# EAGLE library part TLC5941 (library tlc594X)
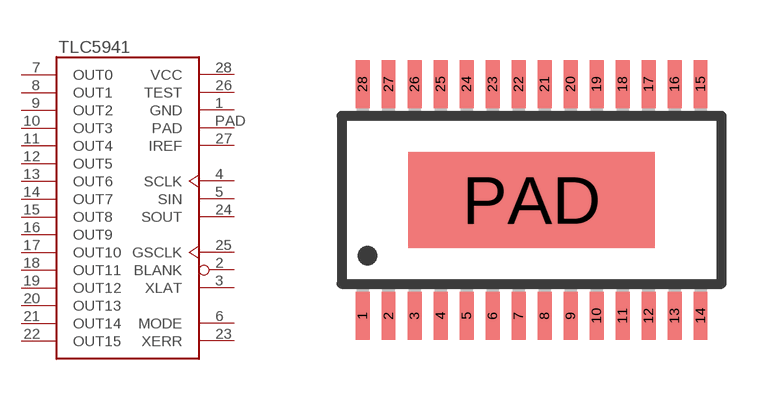
[diagram p1: symbol with the pads of HTSSOP28_POWERPAD; footprint HTSSOP28_POWERPAD]

Designator prefix -

## TLC5941  [HTSSOP28_POWERPAD]
1  GND  pwr
2  BLANK  in
3  XLAT  in
4  SCLK  in
5  SIN  in
6  MODE
7  OUT0  out
8  OUT1  out
9  OUT2  out
10  OUT3  out
11  OUT4  out
12  OUT5  out
13  OUT6  out
14  OUT7  out
15  OUT8  out
16  OUT9  out
17  OUT10  out
18  OUT11  out
19  OUT12  out
20  OUT13  out
21  OUT14  out
22  OUT15  out
23  XERR  out
24  SOUT  out
25  GSCLK  in
26  TEST
27  IREF  in
28  VCC  pwr
PAD  PAD

## Footprint HTSSOP28_POWERPAD (pad centres in mm)
smd 0.35 x 1.2: 1 -4.225,-2.9; 2 -3.575,-2.9; 3 -2.925,-2.9; 4 -2.275,-2.9; 5 -1.625,-2.9; 6 -0.975,-2.9; 7 -0.325,-2.9; 8 0.325,-2.9; 9 0.975,-2.9; 10 1.625,-2.9; 11 2.275,-2.9; 12 2.925,-2.9; 13 3.575,-2.9; 14 4.225,-2.9; 15 4.225,2.9; 16 3.575,2.9; 17 2.925,2.9; 18 2.275,2.9; 19 1.625,2.9; 20 0.975,2.9; 21 0.325,2.9; 22 -0.325,2.9; 23 -0.975,2.9; 24 -1.625,2.9; 25 -2.275,2.9; 26 -2.925,2.9; 27 -3.575,2.9; 28 -4.225,2.9
smd 6.17 x 2.4: PAD 0,0